# Altium footprint library RectangularConnectors.PcbLib: 154 footprints (part 4 of 10)
Each footprint in its own frame and in the unit in brackets; x right, y up, seen from the top. Pads: shape width x height; smd on the part's side, far side on the other; paste and mask are expansions set on the pad; w line width, h text height; cw(c..) or ccw(c..) is an arc to the next point about the centre after c.
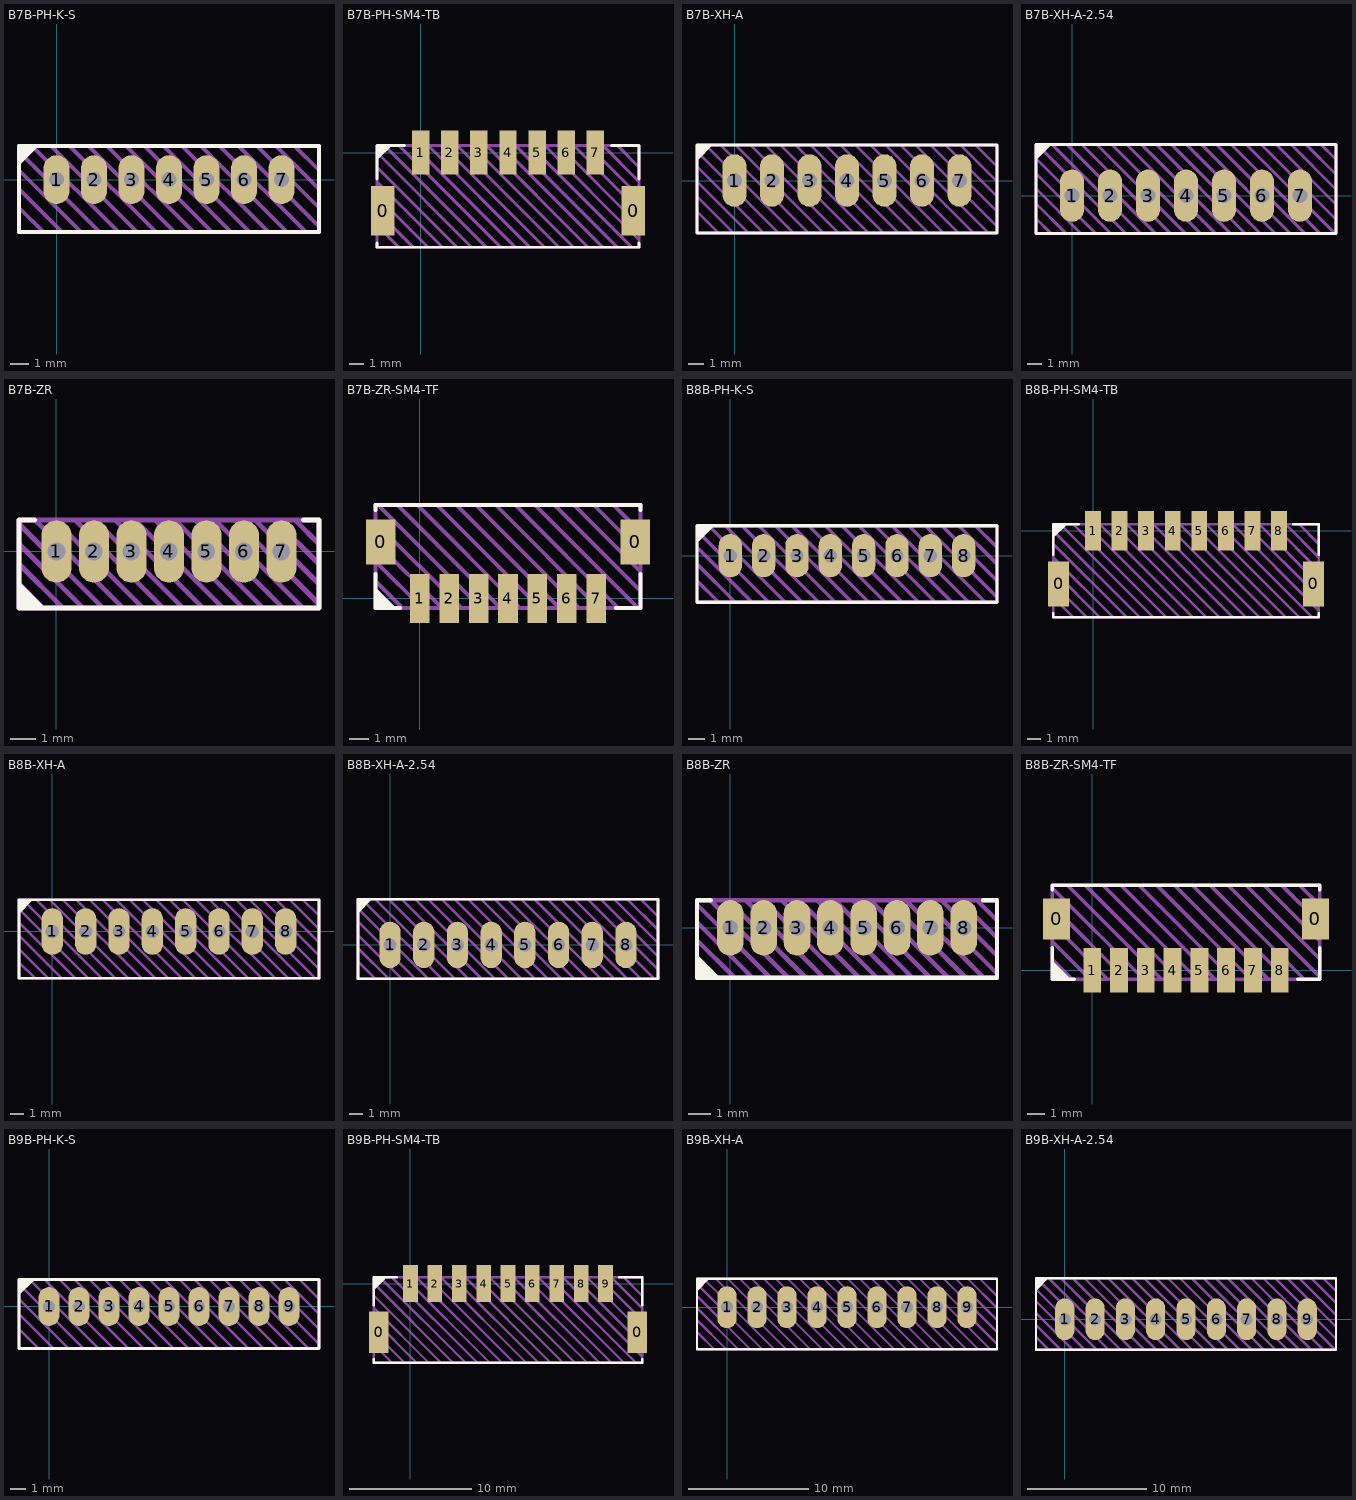
[diagram p3: the footprints below, top view; thin cyan lines are the x and y axes]

## B7B-PH-K-S [mm] "PH2.0 PTH Straight"
pads (7):
  oval 1.4x2.6 hole 0.8: 1(0,0) 2(2,0) 3(4,0) 4(6,0) 5(8,0) 6(10,0) 7(12,0)
Top Overlay:
  region: -2,0.76 -0.96,1.8 -2,1.8
  lines w0.2: -2,-2.8 14,-2.8 14,1.8 -2,1.8 -2,-2.8
Top Draw:
  lines w0.2: -2,-1.5 -0.7,-2.8 ; -2,-0.5 0.3,-2.8 ; -2,0.5 1.3,-2.8 ; -2,1.5 2.3,-2.8 ; -1.3,1.8 3.3,-2.8 ; -0.3,1.8 4.3,-2.8 ; 0.7,1.8 5.3,-2.8 ; 1.7,1.8 6.3,-2.8 ; 2.7,1.8 7.3,-2.8 ; 3.7,1.8 8.3,-2.8 ; 4.7,1.8 9.3,-2.8 ; 5.7,1.8 10.3,-2.8 ; 6.7,1.8 11.3,-2.8 ; 7.7,1.8 12.3,-2.8 ; 8.7,1.8 13.3,-2.8 ; 9.7,1.8 14,-2.5 ; 10.7,1.8 14,-1.5 ; 11.7,1.8 14,-0.5 ; 12.7,1.8 14,0.5 ; -2,-2.8 14,-2.8 14,1.8 -2,1.8 -2,-2.8
Top Info:
  text "'.Comment'" at 1.751,-4.283 h1
3D body "B7B-PH-K-S.stp": height 6.02, standoff -3.38, extent -1.95,-2.8 13.95,1.8

## B7B-PH-SM4-TB [mm] "PH2.0 SMT Straight"
pads (9):
  rect 1.6x3.4 smd: 0(-2.6,-4) 0(14.6,-4)
  rect 1.2x3 smd: 1(0,0) 2(2,0) 3(4,0) 4(6,0) 5(8,0) 6(10,0) 7(12,0)
Top Overlay:
  region: -3,-0.54 -1.96,0.5 -3,0.5
  lines w0.2: -3,-6.2 -3,-6.5 15,-6.5 15,-6.2 ; -3,-1.8 -3,0.5 -1.1,0.5 ; 13.1,0.5 15,0.5 15,-1.8
Top Draw:
  lines w0.2: -3,-5 -1.5,-6.5 ; -3,-4 -0.5,-6.5 ; -3,-3 0.5,-6.5 ; -3,-2 1.5,-6.5 ; -3,-1 2.5,-6.5 ; -3,0 3.5,-6.5 ; -2.5,0.5 4.5,-6.5 ; -1.5,0.5 5.5,-6.5 ; -0.5,0.5 6.5,-6.5 ; 0.5,0.5 7.5,-6.5 ; 1.5,0.5 8.5,-6.5 ; 2.5,0.5 9.5,-6.5 ; 3.5,0.5 10.5,-6.5 ; 4.5,0.5 11.5,-6.5 ; 5.5,0.5 12.5,-6.5 ; 6.5,0.5 13.5,-6.5 ; 7.5,0.5 14.5,-6.5 ; 8.5,0.5 15,-6 ; 9.5,0.5 15,-5 ; 10.5,0.5 15,-4 ; 11.5,0.5 15,-3 ; 12.5,0.5 15,-2 ; 13.5,0.5 15,-1 ; -3,-6.5 -3,0.5 15,0.5 15,-6.5 -3,-6.5
Top Info:
  text "'.Comment'" at 1.751,-7.983 h1
3D body "B7B-PH-SM4-TB.step": height 6.62, standoff 0.02, extent -2.975,-6.5 14.975,0.5

## B7B-XH-A [mm] "XH2.5 PTH Straight"
pads (7):
  oval 1.6x3.5 hole 1: 1(0,0) 2(2.5,0) 3(5,0) 4(7.5,0) 5(10,0) 6(12.5,0) 7(15,0)
Top Overlay:
  region: -2.5,1.335 -1.46,2.375 -2.5,2.375
  lines w0.2: -2.5,-3.5 17.5,-3.5 17.5,2.375 -2.5,2.375 -2.5,-3.5
Top Draw:
  lines w0.2: -2.5,-2.063 -1.063,-3.5 ; -2.5,-1.063 -0.063,-3.5 ; -2.5,-0.063 0.937,-3.5 ; -2.5,0.937 1.937,-3.5 ; -2.5,1.937 2.937,-3.5 ; -1.938,2.375 3.937,-3.5 ; -0.938,2.375 4.937,-3.5 ; 0.062,2.375 5.937,-3.5 ; 1.062,2.375 6.937,-3.5 ; 2.063,2.375 7.938,-3.5 ; 3.062,2.375 8.937,-3.5 ; 4.063,2.375 9.938,-3.5 ; 5.062,2.375 10.937,-3.5 ; 6.063,2.375 11.938,-3.5 ; 7.063,2.375 12.938,-3.5 ; 8.063,2.375 13.938,-3.5 ; 9.063,2.375 14.938,-3.5 ; 10.063,2.375 15.938,-3.5 ; 11.063,2.375 16.938,-3.5 ; 12.063,2.375 17.5,-3.062 ; 13.063,2.375 17.5,-2.062 ; 14.063,2.375 17.5,-1.062 ; 15.063,2.375 17.5,-0.062 ; 16.063,2.375 17.5,0.938 ; -2.5,-3.5 17.5,-3.5 17.5,2.375 -2.5,2.375 -2.5,-3.5
Top Info:
  text "'.Comment'" at 3.251,-4.958 h1
3D body "B7B-XH-A.step": height 7.02, standoff -3.48, extent -2.45,-3.4 17.45,2.35

## B7B-XH-A-2.54 [mm] "XH2.54 PTH Straight"
pads (7):
  oval 1.6x3.5 hole 1: 1(0,0) 2(2.54,0) 3(5.08,0) 4(7.62,0) 5(10.16,0) 6(12.7,0) 7(15.24,0)
Top Overlay:
  region: -2.413,2.389 -1.373,3.429 -2.413,3.429
  lines w0.2: -2.413,-2.54 -2.413,3.429 17.653,3.429 17.653,-2.54 -2.413,-2.54
Top Draw:
  lines w0.2: -2.413,-1.523 -1.396,-2.54 ; -2.413,-0.523 -0.396,-2.54 ; -2.413,0.477 0.604,-2.54 ; -2.413,1.477 1.604,-2.54 ; -2.413,2.477 2.604,-2.54 ; -2.365,3.429 3.604,-2.54 ; -1.365,3.429 4.604,-2.54 ; -0.365,3.429 5.604,-2.54 ; 0.635,3.429 6.604,-2.54 ; 1.635,3.429 7.604,-2.54 ; 2.635,3.429 8.604,-2.54 ; 3.635,3.429 9.604,-2.54 ; 4.635,3.429 10.604,-2.54 ; 5.636,3.429 11.605,-2.54 ; 6.636,3.429 12.605,-2.54 ; 7.636,3.429 13.605,-2.54 ; 8.636,3.429 14.605,-2.54 ; 9.636,3.429 15.605,-2.54 ; 10.636,3.429 16.605,-2.54 ; 11.636,3.429 17.605,-2.54 ; 12.636,3.429 17.653,-1.588 ; 13.636,3.429 17.653,-0.588 ; 14.636,3.429 17.653,0.412 ; 15.636,3.429 17.653,1.412 ; 16.636,3.429 17.653,2.412 ; -2.413,-2.54 17.653,-2.54 17.653,3.429 -2.413,3.429 -2.413,-2.54
Top Info:
  text "'.Comment'" at 3.371,-4.012 h1
3D body "JST - XH - Thru (V) - 7Pin - 2.54mm.stp": height 7.21, standoff -3, extent -2.337,-2.489 17.577,3.353

## B7B-ZR [mm] "ZH1.5 PTH Straight"
pads (7):
  oval 1.2x2.5 hole 0.7: 1(0,0) 2(1.5,0) 3(3,0) 4(4.5,0) 5(6,0) 6(7.5,0) 7(9,0)
Top Overlay:
  region: -0.46,-2.25 -1.5,-1.21 -1.5,-2.25
  lines w0.2: -0.875,1.25 -1.5,1.25 -1.5,-2.25 10.5,-2.25 10.5,1.25 9.875,1.25
Top Draw:
  lines w0.2: -1.5,-1.3 -0.55,-2.25 ; -1.5,-0.5 0.25,-2.25 ; -1.5,0.3 1.05,-2.25 ; -1.5,1.1 1.85,-2.25 ; -0.85,1.25 2.65,-2.25 ; -0.05,1.25 3.45,-2.25 ; 0.75,1.25 4.25,-2.25 ; 1.55,1.25 5.05,-2.25 ; 2.35,1.25 5.85,-2.25 ; 3.15,1.25 6.65,-2.25 ; 3.95,1.25 7.45,-2.25 ; 4.75,1.25 8.25,-2.25 ; 5.55,1.25 9.05,-2.25 ; 6.35,1.25 9.85,-2.25 ; 7.15,1.25 10.5,-2.1 ; 7.95,1.25 10.5,-1.3 ; 8.75,1.25 10.5,-0.5 ; 9.55,1.25 10.5,0.3 ; -1.5,-2.25 10.5,-2.25 10.5,1.25 -1.5,1.25 -1.5,-2.25
Top Info:
  text "'.Comment'" at 1.314,-3.437 h0.75
3D body "B7B-ZR.step": height 4.52, standoff -2.68, extent -1.5,-2.2 10.5,1.3

## B7B-ZR-SM4-TF [mm] "ZH1.5 SMT Straight"
pads (9):
  rect 1.5x2.3 smd: 0(-2,2.875) 0(11,2.875)
  rect 1x2.5 smd: 1(0,0) 2(1.5,0) 3(3,0) 4(4.5,0) 5(6,0) 6(7.5,0) 7(9,0)
Top Overlay:
  region: -1.21,-0.5 -2.25,0.54 -2.25,-0.5
  lines w0.2: -2.25,1.25 -2.25,-0.5 -1,-0.5 ; -2.25,4.5 -2.25,4.75 11.25,4.75 11.25,4.5 ; 10,-0.5 11.25,-0.5 11.25,1.25
Top Draw:
  lines w0.2: -2.25,0.875 -0.875,-0.5 ; -2.25,1.875 0.125,-0.5 ; -2.25,2.875 1.125,-0.5 ; -2.25,3.875 2.125,-0.5 ; -2.125,4.75 3.125,-0.5 ; -1.125,4.75 4.125,-0.5 ; -0.125,4.75 5.125,-0.5 ; 0.875,4.75 6.125,-0.5 ; 1.875,4.75 7.125,-0.5 ; 2.875,4.75 8.125,-0.5 ; 3.875,4.75 9.125,-0.5 ; 4.875,4.75 10.125,-0.5 ; 5.875,4.75 11.125,-0.5 ; 6.875,4.75 11.25,0.375 ; 7.875,4.75 11.25,1.375 ; 8.875,4.75 11.25,2.375 ; 9.875,4.75 11.25,3.375 ; -2.25,-0.5 -2.25,4.75 11.25,4.75 11.25,-0.5 -2.25,-0.5
Top Info:
  text "'.Comment'" at 1.314,-2.437 h0.75
3D body "B7B-ZR-SM4-TF.step": height 5.02, standoff 0.02, extent -2.25,-0.5 11.25,4.7

## B8B-PH-K-S [mm] "PH2.0 PTH Straight"
pads (8):
  oval 1.4x2.6 hole 0.8: 1(0,0) 2(2,0) 3(4,0) 4(6,0) 5(8,0) 6(10,0) 7(12,0) 8(14,0)
Top Overlay:
  region: -2,0.76 -0.96,1.8 -2,1.8
  lines w0.2: -2,-2.8 -2,1.8 16,1.8 16,-2.8 -2,-2.8
Top Draw:
  lines w0.2: -2,-1.5 -0.7,-2.8 ; -2,-0.5 0.3,-2.8 ; -2,0.5 1.3,-2.8 ; -2,1.5 2.3,-2.8 ; -1.3,1.8 3.3,-2.8 ; -0.3,1.8 4.3,-2.8 ; 0.7,1.8 5.3,-2.8 ; 1.7,1.8 6.3,-2.8 ; 2.7,1.8 7.3,-2.8 ; 3.7,1.8 8.3,-2.8 ; 4.7,1.8 9.3,-2.8 ; 5.7,1.8 10.3,-2.8 ; 6.7,1.8 11.3,-2.8 ; 7.7,1.8 12.3,-2.8 ; 8.7,1.8 13.3,-2.8 ; 9.7,1.8 14.3,-2.8 ; 10.7,1.8 15.3,-2.8 ; 11.7,1.8 16,-2.5 ; 12.7,1.8 16,-1.5 ; 13.7,1.8 16,-0.5 ; 14.7,1.8 16,0.5 ; -2,-2.8 -2,1.8 16,1.8 16,-2.8 -2,-2.8
Top Info:
  text "'.Comment'" at 2.751,-4.283 h1
3D body "B8B-PH-K-S.stp": height 6.02, standoff -3.38, extent -1.95,-2.8 15.95,1.8

## B8B-PH-SM4-TB [mm] "PH2.0 SMT Straight"
pads (10):
  rect 1.6x3.4 smd: 0(-2.6,-4) 0(16.6,-4)
  rect 1.2x3 smd: 1(0,0) 2(2,0) 3(4,0) 4(6,0) 5(8,0) 6(10,0) 7(12,0) 8(14,0)
Top Overlay:
  region: -3,-0.54 -1.96,0.5 -3,0.5
  lines w0.2: -3,-6.2 -3,-6.5 17,-6.5 17,-6.2 ; -3,-1.8 -3,0.5 -1.1,0.5 ; 15.1,0.5 17,0.5 17,-1.8
Top Draw:
  lines w0.2: -3,-5 -1.5,-6.5 ; -3,-4 -0.5,-6.5 ; -3,-3 0.5,-6.5 ; -3,-2 1.5,-6.5 ; -3,-1 2.5,-6.5 ; -3,0 3.5,-6.5 ; -2.5,0.5 4.5,-6.5 ; -1.5,0.5 5.5,-6.5 ; -0.5,0.5 6.5,-6.5 ; 0.5,0.5 7.5,-6.5 ; 1.5,0.5 8.5,-6.5 ; 2.5,0.5 9.5,-6.5 ; 3.5,0.5 10.5,-6.5 ; 4.5,0.5 11.5,-6.5 ; 5.5,0.5 12.5,-6.5 ; 6.5,0.5 13.5,-6.5 ; 7.5,0.5 14.5,-6.5 ; 8.5,0.5 15.5,-6.5 ; 9.5,0.5 16.5,-6.5 ; 10.5,0.5 17,-6 ; 11.5,0.5 17,-5 ; 12.5,0.5 17,-4 ; 13.5,0.5 17,-3 ; 14.5,0.5 17,-2 ; 15.5,0.5 17,-1 ; -3,-6.5 -3,0.5 17,0.5 17,-6.5 -3,-6.5
Top Info:
  text "'.Comment'" at 2.751,-7.983 h1
3D body "B8B-PH-SM4-TB.step": height 6.62, standoff 0.02, extent -2.975,-6.5 16.975,0.5

## B8B-XH-A [mm] "XH2.5 PTH Straight"
pads (8):
  oval 1.6x3.5 hole 1: 1(0,0) 2(2.5,0) 3(5,0) 4(7.5,0) 5(10,0) 6(12.5,0) 7(15,0) 8(17.5,0)
Top Overlay:
  region: -2.5,1.335 -1.46,2.375 -2.5,2.375
  lines w0.2: -2.5,-3.5 20,-3.5 20,2.375 -2.5,2.375 -2.5,-3.5
Top Draw:
  lines w0.2: -2.5,-2.313 -1.313,-3.5 ; -2.5,-1.313 -0.313,-3.5 ; -2.5,-0.313 0.687,-3.5 ; -2.5,0.687 1.687,-3.5 ; -2.5,1.687 2.687,-3.5 ; -2.188,2.375 3.687,-3.5 ; -1.188,2.375 4.687,-3.5 ; -0.188,2.375 5.687,-3.5 ; 0.812,2.375 6.687,-3.5 ; 1.812,2.375 7.687,-3.5 ; 2.812,2.375 8.687,-3.5 ; 3.812,2.375 9.687,-3.5 ; 4.812,2.375 10.687,-3.5 ; 5.813,2.375 11.688,-3.5 ; 6.813,2.375 12.688,-3.5 ; 7.813,2.375 13.688,-3.5 ; 8.813,2.375 14.688,-3.5 ; 9.813,2.375 15.688,-3.5 ; 10.813,2.375 16.688,-3.5 ; 11.813,2.375 17.688,-3.5 ; 12.813,2.375 18.688,-3.5 ; 13.813,2.375 19.688,-3.5 ; 14.813,2.375 20,-2.812 ; 15.813,2.375 20,-1.812 ; 16.813,2.375 20,-0.812 ; 17.813,2.375 20,0.188 ; 18.813,2.375 20,1.188 ; -2.5,-3.5 20,-3.5 20,2.375 -2.5,2.375 -2.5,-3.5
Top Info:
  text "'.Comment'" at 4.501,-4.958 h1
3D body "B8B-XH-A.step": height 7.02, standoff -3.48, extent -2.45,-3.4 19.95,2.35

## B8B-XH-A-2.54 [mm] "XH2.54 PTH Straight"
pads (8):
  oval 1.6x3.5 hole 1: 1(0,0) 2(2.54,0) 3(5.08,0) 4(7.62,0) 5(10.16,0) 6(12.7,0) 7(15.24,0) 8(17.78,0)
Top Overlay:
  region: -2.413,2.389 -1.373,3.429 -2.413,3.429
  lines w0.2: -2.413,-2.54 20.193,-2.54 20.193,3.429 -2.413,3.429 -2.413,-2.54
Top Draw:
  lines w0.2: -2.413,-1.253 -1.126,-2.54 ; -2.413,-0.253 -0.126,-2.54 ; -2.413,0.747 0.874,-2.54 ; -2.413,1.747 1.874,-2.54 ; -2.413,2.747 2.874,-2.54 ; -2.095,3.429 3.874,-2.54 ; -1.095,3.429 4.874,-2.54 ; -0.095,3.429 5.874,-2.54 ; 0.905,3.429 6.874,-2.54 ; 1.905,3.429 7.874,-2.54 ; 2.905,3.429 8.874,-2.54 ; 3.905,3.429 9.874,-2.54 ; 4.905,3.429 10.874,-2.54 ; 5.905,3.429 11.874,-2.54 ; 6.906,3.429 12.875,-2.54 ; 7.906,3.429 13.875,-2.54 ; 8.906,3.429 14.875,-2.54 ; 9.906,3.429 15.875,-2.54 ; 10.906,3.429 16.875,-2.54 ; 11.906,3.429 17.875,-2.54 ; 12.906,3.429 18.875,-2.54 ; 13.906,3.429 19.875,-2.54 ; 14.906,3.429 20.193,-1.858 ; 15.906,3.429 20.193,-0.858 ; 16.906,3.429 20.193,0.142 ; 17.906,3.429 20.193,1.142 ; 18.906,3.429 20.193,2.142 ; -2.413,-2.54 20.193,-2.54 20.193,3.429 -2.413,3.429 -2.413,-2.54
Top Info:
  text "'.Comment'" at 4.641,-4.012 h1
3D body "JST - XH - Thru (V) - 8Pin - 2.54mm.stp": height 7.21, standoff -3, extent -2.337,-2.489 20.117,3.353

## B8B-ZR [mm] "ZH1.5 PTH Straight"
pads (8):
  oval 1.2x2.5 hole 0.7: 1(0,0) 2(1.5,0) 3(3,0) 4(4.5,0) 5(6,0) 6(7.5,0) 7(9,0) 8(10.5,0)
Top Overlay:
  region: -0.46,-2.25 -1.5,-1.21 -1.5,-2.25
  lines w0.2: -0.875,1.25 -1.5,1.25 -1.5,-2.25 12,-2.25 12,1.25 11.375,1.25
Top Draw:
  lines w0.2: -1.5,-1.35 -0.6,-2.25 ; -1.5,-0.55 0.2,-2.25 ; -1.5,0.25 1,-2.25 ; -1.5,1.05 1.8,-2.25 ; -0.9,1.25 2.6,-2.25 ; -0.1,1.25 3.4,-2.25 ; 0.7,1.25 4.2,-2.25 ; 1.5,1.25 5,-2.25 ; 2.3,1.25 5.8,-2.25 ; 3.1,1.25 6.6,-2.25 ; 3.9,1.25 7.4,-2.25 ; 4.7,1.25 8.2,-2.25 ; 5.5,1.25 9,-2.25 ; 6.3,1.25 9.8,-2.25 ; 7.1,1.25 10.6,-2.25 ; 7.9,1.25 11.4,-2.25 ; 8.7,1.25 12,-2.05 ; 9.5,1.25 12,-1.25 ; 10.3,1.25 12,-0.45 ; 11.1,1.25 12,0.35 ; -1.5,-2.25 -1.5,1.25 12,1.25 12,-2.25 -1.5,-2.25
Top Info:
  text "'.Comment'" at 2.064,-3.437 h0.75
3D body "B8B-ZR.step": height 4.52, standoff -2.68, extent -1.5,-2.2 12,1.3

## B8B-ZR-SM4-TF [mm] "ZH1.5 SMT Straight"
pads (10):
  rect 1.5x2.3 smd: 0(-2,2.875) 0(12.5,2.875)
  rect 1x2.5 smd: 1(0,0) 2(1.5,0) 3(3,0) 4(4.5,0) 5(6,0) 6(7.5,0) 7(9,0) 8(10.5,0)
Top Overlay:
  region: -1.21,-0.5 -2.25,0.54 -2.25,-0.5
  lines w0.2: -2.25,1.25 -2.25,-0.5 -1,-0.5 ; -2.25,4.5 -2.25,4.75 12.75,4.75 12.75,4.5 ; 11.5,-0.5 12.75,-0.5 12.75,1.25
Top Draw:
  lines w0.2: -2.25,0.625 -1.125,-0.5 ; -2.25,1.625 -0.125,-0.5 ; -2.25,2.625 0.875,-0.5 ; -2.25,3.625 1.875,-0.5 ; -2.25,4.625 2.875,-0.5 ; -1.375,4.75 3.875,-0.5 ; -0.375,4.75 4.875,-0.5 ; 0.625,4.75 5.875,-0.5 ; 1.625,4.75 6.875,-0.5 ; 2.625,4.75 7.875,-0.5 ; 3.625,4.75 8.875,-0.5 ; 4.625,4.75 9.875,-0.5 ; 5.625,4.75 10.875,-0.5 ; 6.625,4.75 11.875,-0.5 ; 7.625,4.75 12.75,-0.375 ; 8.625,4.75 12.75,0.625 ; 9.625,4.75 12.75,1.625 ; 10.625,4.75 12.75,2.625 ; 11.625,4.75 12.75,3.625 ; -2.25,-0.5 -2.25,4.75 12.75,4.75 12.75,-0.5 -2.25,-0.5
Top Info:
  text "'.Comment'" at 2.064,-2.437 h0.75
3D body "B8B-ZR-SM4-TF.step": height 5.02, standoff 0.02, extent -2.25,-0.5 12.75,4.7

## B9B-PH-K-S [mm] "PH2.0 PTH Straight"
pads (9):
  oval 1.4x2.6 hole 0.8: 1(0,0) 2(2,0) 3(4,0) 4(6,0) 5(8,0) 6(10,0) 7(12,0) 8(14,0) 9(16,0)
Top Overlay:
  region: -2,0.76 -0.96,1.8 -2,1.8
  lines w0.2: -2,-2.8 18,-2.8 18,1.8 -2,1.8 -2,-2.8
Top Draw:
  lines w0.2: -2,-1.5 -0.7,-2.8 ; -2,-0.5 0.3,-2.8 ; -2,0.5 1.3,-2.8 ; -2,1.5 2.3,-2.8 ; -1.3,1.8 3.3,-2.8 ; -0.3,1.8 4.3,-2.8 ; 0.7,1.8 5.3,-2.8 ; 1.7,1.8 6.3,-2.8 ; 2.7,1.8 7.3,-2.8 ; 3.7,1.8 8.3,-2.8 ; 4.7,1.8 9.3,-2.8 ; 5.7,1.8 10.3,-2.8 ; 6.7,1.8 11.3,-2.8 ; 7.7,1.8 12.3,-2.8 ; 8.7,1.8 13.3,-2.8 ; 9.7,1.8 14.3,-2.8 ; 10.7,1.8 15.3,-2.8 ; 11.7,1.8 16.3,-2.8 ; 12.7,1.8 17.3,-2.8 ; 13.7,1.8 18,-2.5 ; 14.7,1.8 18,-1.5 ; 15.7,1.8 18,-0.5 ; 16.7,1.8 18,0.5 ; -2,-2.8 18,-2.8 18,1.8 -2,1.8 -2,-2.8
Top Info:
  text "'.Comment'" at 3.751,-4.283 h1
3D body "B9B-PH-K-S.stp": height 6.02, standoff -3.38, extent -1.95,-2.8 17.95,1.8

## B9B-PH-SM4-TB [mm] "PH2.0 SMT Straight"
pads (11):
  rect 1.6x3.4 smd: 0(-2.6,-4) 0(18.6,-4)
  rect 1.2x3 smd: 1(0,0) 2(2,0) 3(4,0) 4(6,0) 5(8,0) 6(10,0) 7(12,0) 8(14,0) 9(16,0)
Top Overlay:
  region: -3,-0.54 -1.96,0.5 -3,0.5
  lines w0.2: -3,-6.2 -3,-6.5 19,-6.5 19,-6.2 ; -3,-1.8 -3,0.5 -1.1,0.5 ; 17.1,0.5 19,0.5 19,-1.8
Top Draw:
  lines w0.2: -3,-5 -1.5,-6.5 ; -3,-4 -0.5,-6.5 ; -3,-3 0.5,-6.5 ; -3,-2 1.5,-6.5 ; -3,-1 2.5,-6.5 ; -3,0 3.5,-6.5 ; -2.5,0.5 4.5,-6.5 ; -1.5,0.5 5.5,-6.5 ; -0.5,0.5 6.5,-6.5 ; 0.5,0.5 7.5,-6.5 ; 1.5,0.5 8.5,-6.5 ; 2.5,0.5 9.5,-6.5 ; 3.5,0.5 10.5,-6.5 ; 4.5,0.5 11.5,-6.5 ; 5.5,0.5 12.5,-6.5 ; 6.5,0.5 13.5,-6.5 ; 7.5,0.5 14.5,-6.5 ; 8.5,0.5 15.5,-6.5 ; 9.5,0.5 16.5,-6.5 ; 10.5,0.5 17.5,-6.5 ; 11.5,0.5 18.5,-6.5 ; 12.5,0.5 19,-6 ; 13.5,0.5 19,-5 ; 14.5,0.5 19,-4 ; 15.5,0.5 19,-3 ; 16.5,0.5 19,-2 ; 17.5,0.5 19,-1 ; -3,-6.5 19,-6.5 19,0.5 -3,0.5 -3,-6.5
Top Info:
  text "'.Comment'" at 3.751,-7.983 h1
3D body "B9B-PH-SM4-TB.step": height 6.62, standoff 0.02, extent -2.975,-6.5 18.975,0.5

## B9B-XH-A [mm] "XH2.5 PTH Straight"
pads (9):
  oval 1.6x3.5 hole 1: 1(0,0) 2(2.5,0) 3(5,0) 4(7.5,0) 5(10,0) 6(12.5,0) 7(15,0) 8(17.5,0) 9(20,0)
Top Overlay:
  region: -2.5,1.335 -1.46,2.375 -2.5,2.375
  lines w0.2: -2.5,-3.5 22.5,-3.5 22.5,2.375 -2.5,2.375 -2.5,-3.5
Top Draw:
  lines w0.2: -2.5,-2.063 -1.063,-3.5 ; -2.5,-1.063 -0.063,-3.5 ; -2.5,-0.063 0.937,-3.5 ; -2.5,0.937 1.937,-3.5 ; -2.5,1.937 2.937,-3.5 ; -1.938,2.375 3.937,-3.5 ; -0.938,2.375 4.937,-3.5 ; 0.062,2.375 5.937,-3.5 ; 1.062,2.375 6.937,-3.5 ; 2.062,2.375 7.937,-3.5 ; 3.062,2.375 8.937,-3.5 ; 4.062,2.375 9.937,-3.5 ; 5.062,2.375 10.937,-3.5 ; 6.062,2.375 11.937,-3.5 ; 7.063,2.375 12.938,-3.5 ; 8.063,2.375 13.938,-3.5 ; 9.063,2.375 14.938,-3.5 ; 10.063,2.375 15.938,-3.5 ; 11.063,2.375 16.938,-3.5 ; 12.063,2.375 17.938,-3.5 ; 13.063,2.375 18.938,-3.5 ; 14.063,2.375 19.938,-3.5 ; 15.063,2.375 20.938,-3.5 ; 16.063,2.375 21.938,-3.5 ; 17.063,2.375 22.5,-3.062 ; 18.063,2.375 22.5,-2.062 ; 19.063,2.375 22.5,-1.062 ; 20.063,2.375 22.5,-0.062 ; 21.063,2.375 22.5,0.938 ; -2.5,-3.5 22.5,-3.5 22.5,2.375 -2.5,2.375 -2.5,-3.5
Top Info:
  text "'.Comment'" at 5.751,-4.958 h1
3D body "B9B-XH-A.step": height 7.02, standoff -3.48, extent -2.45,-3.4 22.45,2.35

## B9B-XH-A-2.54 [mm] "XH2.54 PTH Straight"
pads (9):
  oval 1.6x3.5 hole 1: 1(0,0) 2(2.54,0) 3(5.08,0) 4(7.62,0) 5(10.16,0) 6(12.7,0) 7(15.24,0) 8(17.78,0) 9(20.32,0)
Top Overlay:
  region: -2.413,2.389 -1.373,3.429 -2.413,3.429
  lines w0.2: -2.413,-2.54 22.733,-2.54 22.733,3.429 -2.413,3.429 -2.413,-2.54
Top Draw:
  lines w0.2: -2.413,-1.483 -1.356,-2.54 ; -2.413,-0.483 -0.356,-2.54 ; -2.413,0.517 0.644,-2.54 ; -2.413,1.517 1.644,-2.54 ; -2.413,2.517 2.644,-2.54 ; -2.325,3.429 3.644,-2.54 ; -1.325,3.429 4.644,-2.54 ; -0.325,3.429 5.644,-2.54 ; 0.675,3.429 6.644,-2.54 ; 1.675,3.429 7.644,-2.54 ; 2.675,3.429 8.644,-2.54 ; 3.675,3.429 9.644,-2.54 ; 4.675,3.429 10.644,-2.54 ; 5.675,3.429 11.644,-2.54 ; 6.676,3.429 12.645,-2.54 ; 7.675,3.429 13.644,-2.54 ; 8.676,3.429 14.645,-2.54 ; 9.676,3.429 15.645,-2.54 ; 10.676,3.429 16.645,-2.54 ; 11.676,3.429 17.645,-2.54 ; 12.676,3.429 18.645,-2.54 ; 13.676,3.429 19.645,-2.54 ; 14.676,3.429 20.645,-2.54 ; 15.676,3.429 21.645,-2.54 ; 16.676,3.429 22.645,-2.54 ; 17.676,3.429 22.733,-1.628 ; 18.676,3.429 22.733,-0.628 ; 19.676,3.429 22.733,0.372 ; 20.676,3.429 22.733,1.372 ; 21.676,3.429 22.733,2.372 ; -2.413,-2.54 22.733,-2.54 22.733,3.429 -2.413,3.429 -2.413,-2.54
Top Info:
  text "'.Comment'" at 5.911,-4.012 h1
3D body "JST - XH - Thru (V) - 9Pin - 2.54mm.stp": height 7.21, standoff -3, extent -2.337,-2.489 22.657,3.353